# EAGLE library part XH-A-6 (library cpio)
XH-A-6 Connector, 2.5mm pitch, disconnectable crimp style connector
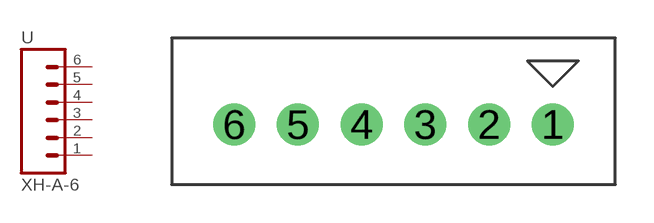
[diagram p5: symbol with the pads of XH-A-6; footprint XH-A-6]

Designator prefix -

## XH-A-6  [XH-A-6]
1  1  pas
2  2  pas
3  3  pas
4  4  pas
5  5  pas
6  6  pas

## Footprint XH-A-6 (pad centres in mm)
drill 1.1: 1 6.25,0; 2 3.75,0; 3 1.25,0; 4 -1.25,0; 5 -3.75,0; 6 -6.25,0